# Altium integrated library National Semiconductor LDO.IntLib: 2675 symbols (part 45 of 65)
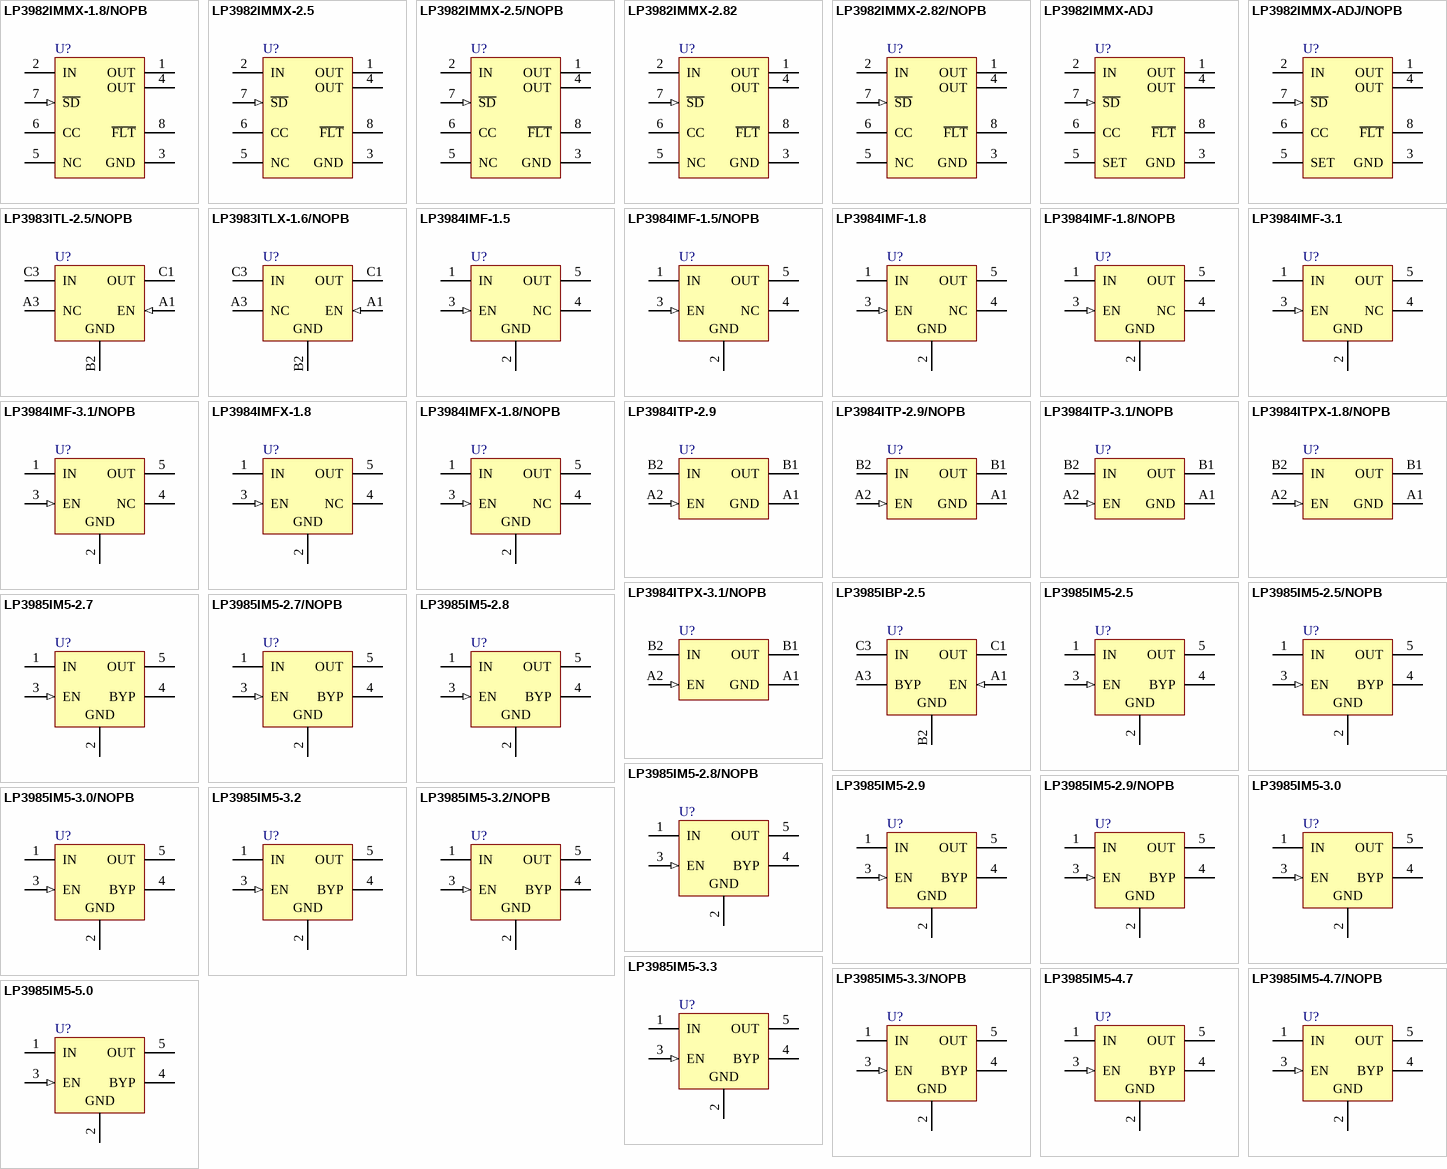
[diagram p111: symbols LP3982IMMX-1.8/NOPB to LP3985IM5-5.0]

## LP3985IM5-2.7
designator U?
Micropower, 150mA Low-Noise Ultra Low-Dropout CMOS Voltage Regulator, 5-pin SOT-23; PartNumber: LP3985IM5-2.7; Manufacturer: National Semiconductor; PackageTopMarking: LCUB*XTT; PowerWise: N; CompType: LDO IC; High-Reliability: Y; DatasheetVersion: Aug-2005; PackageVersion: revD, Aug-2008; PackageReference: MF05A; PackageDescription: Molded SOT-23, .115 x .063 x .040 in Body, 5 Lead, .0375 in Pitch; RoHS: N; PinCount: 5; ComponentLink1Description: Manufacturer URL; ComponentLink1URL: http://www.national.com/; ComponentLink2Description: LP3985 Datasheet; ComponentLink2URL: http://www.national.com/ds/LP/LP3985.pdf; ComponentLink3Description: LP3985 Web Page; ComponentLink3URL: http://www.national.com/pf/LP/LP3985.html; ComponentLink4Description: MF05A Package Page; ComponentLink4URL: http://www.national.com/packaging/folders/mf05a.html
footprint MF05A_N (SOT23, 5-Leads, Body 2.9x1.6mm, Pitch 0.95mm, Lead Span 2.8mm, IPC Medium Density)
footprint MF05A_L (SOT23, 5-Leads, Body 2.9x1.6mm, Pitch 0.95mm, Lead Span 2.8mm, IPC High Density)
footprint MF05A_M (SOT23, 5-Leads, Body 2.9x1.6mm, Pitch 0.95mm, Lead Span 2.8mm, IPC Low Density)
pins: 1 IN (power), 2 GND (power), 3 EN (in), 4 BYP, 5 OUT (power)

## LP3985IM5-2.7/NOPB
designator U?
Micropower, 150mA Low-Noise Ultra Low-Dropout CMOS Voltage Regulator, 5-pin SOT-23, Pb-Free; PartNumber: LP3985IM5-2.7/NOPB; Manufacturer: National Semiconductor; PackageTopMarking: LCUB*XTT; PowerWise: N; CompType: LDO IC; High-Reliability: Y; DatasheetVersion: Aug-2005; PackageVersion: revD, Aug-2008; PackageReference: MF05A; PackageDescription: Molded SOT-23, .115 x .063 x .040 in Body, 5 Lead, .0375 in Pitch; RoHS: Y; PinCount: 5; ComponentLink1Description: Manufacturer URL; ComponentLink1URL: http://www.national.com/; ComponentLink2Description: LP3985 Datasheet; ComponentLink2URL: http://www.national.com/ds/LP/LP3985.pdf; ComponentLink3Description: LP3985 Web Page; ComponentLink3URL: http://www.national.com/pf/LP/LP3985.html; ComponentLink4Description: MF05A Package Page; ComponentLink4URL: http://www.national.com/packaging/folders/mf05a.html
footprint MF05A_N (SOT23, 5-Leads, Body 2.9x1.6mm, Pitch 0.95mm, Lead Span 2.8mm, IPC Medium Density)
footprint MF05A_L (SOT23, 5-Leads, Body 2.9x1.6mm, Pitch 0.95mm, Lead Span 2.8mm, IPC High Density)
footprint MF05A_M (SOT23, 5-Leads, Body 2.9x1.6mm, Pitch 0.95mm, Lead Span 2.8mm, IPC Low Density)
pins: 1 IN (power), 2 GND (power), 3 EN (in), 4 BYP, 5 OUT (power)

## LP3985IM5-2.8
designator U?
Micropower, 150mA Low-Noise Ultra Low-Dropout CMOS Voltage Regulator, 5-pin SOT-23; PartNumber: LP3985IM5-2.8; Manufacturer: National Semiconductor; PackageTopMarking: LCJB*XTT; PowerWise: N; CompType: LDO IC; High-Reliability: Y; DatasheetVersion: Aug-2005; PackageVersion: revD, Aug-2008; PackageReference: MF05A; PackageDescription: Molded SOT-23, .115 x .063 x .040 in Body, 5 Lead, .0375 in Pitch; RoHS: N; PinCount: 5; ComponentLink1Description: Manufacturer URL; ComponentLink1URL: http://www.national.com/; ComponentLink2Description: LP3985 Datasheet; ComponentLink2URL: http://www.national.com/ds/LP/LP3985.pdf; ComponentLink3Description: LP3985 Web Page; ComponentLink3URL: http://www.national.com/pf/LP/LP3985.html; ComponentLink4Description: MF05A Package Page; ComponentLink4URL: http://www.national.com/packaging/folders/mf05a.html
footprint MF05A_N (SOT23, 5-Leads, Body 2.9x1.6mm, Pitch 0.95mm, Lead Span 2.8mm, IPC Medium Density)
footprint MF05A_L (SOT23, 5-Leads, Body 2.9x1.6mm, Pitch 0.95mm, Lead Span 2.8mm, IPC High Density)
footprint MF05A_M (SOT23, 5-Leads, Body 2.9x1.6mm, Pitch 0.95mm, Lead Span 2.8mm, IPC Low Density)
pins: 1 IN (power), 2 GND (power), 3 EN (in), 4 BYP, 5 OUT (power)

## LP3985IM5-2.8/NOPB
designator U?
Micropower, 150mA Low-Noise Ultra Low-Dropout CMOS Voltage Regulator, 5-pin SOT-23, Pb-Free; PartNumber: LP3985IM5-2.8/NOPB; Manufacturer: National Semiconductor; PackageTopMarking: LCJB*XTT; PowerWise: N; CompType: LDO IC; High-Reliability: Y; DatasheetVersion: Aug-2005; PackageVersion: revD, Aug-2008; PackageReference: MF05A; PackageDescription: Molded SOT-23, .115 x .063 x .040 in Body, 5 Lead, .0375 in Pitch; RoHS: Y; PinCount: 5; ComponentLink1Description: Manufacturer URL; ComponentLink1URL: http://www.national.com/; ComponentLink2Description: LP3985 Datasheet; ComponentLink2URL: http://www.national.com/ds/LP/LP3985.pdf; ComponentLink3Description: LP3985 Web Page; ComponentLink3URL: http://www.national.com/pf/LP/LP3985.html; ComponentLink4Description: MF05A Package Page; ComponentLink4URL: http://www.national.com/packaging/folders/mf05a.html
footprint MF05A_N (SOT23, 5-Leads, Body 2.9x1.6mm, Pitch 0.95mm, Lead Span 2.8mm, IPC Medium Density)
footprint MF05A_L (SOT23, 5-Leads, Body 2.9x1.6mm, Pitch 0.95mm, Lead Span 2.8mm, IPC High Density)
footprint MF05A_M (SOT23, 5-Leads, Body 2.9x1.6mm, Pitch 0.95mm, Lead Span 2.8mm, IPC Low Density)
pins: 1 IN (power), 2 GND (power), 3 EN (in), 4 BYP, 5 OUT (power)

## LP3985IM5-2.9
designator U?
Micropower, 150mA Low-Noise Ultra Low-Dropout CMOS Voltage Regulator, 5-pin SOT-23; PartNumber: LP3985IM5-2.9; Manufacturer: National Semiconductor; PackageTopMarking: LCYB*XTT; PowerWise: N; CompType: LDO IC; High-Reliability: Y; DatasheetVersion: Aug-2005; PackageVersion: revD, Aug-2008; PackageReference: MF05A; PackageDescription: Molded SOT-23, .115 x .063 x .040 in Body, 5 Lead, .0375 in Pitch; RoHS: Y; PinCount: 5; ComponentLink1Description: Manufacturer URL; ComponentLink1URL: http://www.national.com/; ComponentLink2Description: LP3985 Datasheet; ComponentLink2URL: http://www.national.com/ds/LP/LP3985.pdf; ComponentLink3Description: LP3985 Web Page; ComponentLink3URL: http://www.national.com/pf/LP/LP3985.html; ComponentLink4Description: MF05A Package Page; ComponentLink4URL: http://www.national.com/packaging/folders/mf05a.html
footprint MF05A_N (SOT23, 5-Leads, Body 2.9x1.6mm, Pitch 0.95mm, Lead Span 2.8mm, IPC Medium Density)
footprint MF05A_L (SOT23, 5-Leads, Body 2.9x1.6mm, Pitch 0.95mm, Lead Span 2.8mm, IPC High Density)
footprint MF05A_M (SOT23, 5-Leads, Body 2.9x1.6mm, Pitch 0.95mm, Lead Span 2.8mm, IPC Low Density)
pins: 1 IN (power), 2 GND (power), 3 EN (in), 4 BYP, 5 OUT (power)

## LP3985IM5-2.9/NOPB
designator U?
Micropower, 150mA Low-Noise Ultra Low-Dropout CMOS Voltage Regulator, 5-pin SOT-23, Pb-Free; PartNumber: LP3985IM5-2.9/NOPB; Manufacturer: National Semiconductor; PackageTopMarking: LCYB*XTT; PowerWise: N; CompType: LDO IC; High-Reliability: Y; DatasheetVersion: Aug-2005; PackageVersion: revD, Aug-2008; PackageReference: MF05A; PackageDescription: Molded SOT-23, .115 x .063 x .040 in Body, 5 Lead, .0375 in Pitch; RoHS: Y; PinCount: 5; ComponentLink1Description: Manufacturer URL; ComponentLink1URL: http://www.national.com/; ComponentLink2Description: LP3985 Datasheet; ComponentLink2URL: http://www.national.com/ds/LP/LP3985.pdf; ComponentLink3Description: LP3985 Web Page; ComponentLink3URL: http://www.national.com/pf/LP/LP3985.html; ComponentLink4Description: MF05A Package Page; ComponentLink4URL: http://www.national.com/packaging/folders/mf05a.html
footprint MF05A_N (SOT23, 5-Leads, Body 2.9x1.6mm, Pitch 0.95mm, Lead Span 2.8mm, IPC Medium Density)
footprint MF05A_L (SOT23, 5-Leads, Body 2.9x1.6mm, Pitch 0.95mm, Lead Span 2.8mm, IPC High Density)
footprint MF05A_M (SOT23, 5-Leads, Body 2.9x1.6mm, Pitch 0.95mm, Lead Span 2.8mm, IPC Low Density)
pins: 1 IN (power), 2 GND (power), 3 EN (in), 4 BYP, 5 OUT (power)

## LP3985IM5-3.0
designator U?
Micropower, 150mA Low-Noise Ultra Low-Dropout CMOS Voltage Regulator, 5-pin SOT-23; PartNumber: LP3985IM5-3.0; Manufacturer: National Semiconductor; PackageTopMarking: LCRB*XTT; PowerWise: N; CompType: LDO IC; High-Reliability: Y; DatasheetVersion: Aug-2005; PackageVersion: revD, Aug-2008; PackageReference: MF05A; PackageDescription: Molded SOT-23, .115 x .063 x .040 in Body, 5 Lead, .0375 in Pitch; RoHS: N; PinCount: 5; ComponentLink1Description: Manufacturer URL; ComponentLink1URL: http://www.national.com/; ComponentLink2Description: LP3985 Datasheet; ComponentLink2URL: http://www.national.com/ds/LP/LP3985.pdf; ComponentLink3Description: LP3985 Web Page; ComponentLink3URL: http://www.national.com/pf/LP/LP3985.html; ComponentLink4Description: MF05A Package Page; ComponentLink4URL: http://www.national.com/packaging/folders/mf05a.html
footprint MF05A_N (SOT23, 5-Leads, Body 2.9x1.6mm, Pitch 0.95mm, Lead Span 2.8mm, IPC Medium Density)
footprint MF05A_L (SOT23, 5-Leads, Body 2.9x1.6mm, Pitch 0.95mm, Lead Span 2.8mm, IPC High Density)
footprint MF05A_M (SOT23, 5-Leads, Body 2.9x1.6mm, Pitch 0.95mm, Lead Span 2.8mm, IPC Low Density)
pins: 1 IN (power), 2 GND (power), 3 EN (in), 4 BYP, 5 OUT (power)

## LP3985IM5-3.0/NOPB
designator U?
Micropower, 150mA Low-Noise Ultra Low-Dropout CMOS Voltage Regulator, 5-pin SOT-23, Pb-Free; PartNumber: LP3985IM5-3.0/NOPB; Manufacturer: National Semiconductor; PackageTopMarking: LCRB*XTT; PowerWise: N; CompType: LDO IC; High-Reliability: Y; DatasheetVersion: Aug-2005; PackageVersion: revD, Aug-2008; PackageReference: MF05A; PackageDescription: Molded SOT-23, .115 x .063 x .040 in Body, 5 Lead, .0375 in Pitch; RoHS: Y; PinCount: 5; ComponentLink1Description: Manufacturer URL; ComponentLink1URL: http://www.national.com/; ComponentLink2Description: LP3985 Datasheet; ComponentLink2URL: http://www.national.com/ds/LP/LP3985.pdf; ComponentLink3Description: LP3985 Web Page; ComponentLink3URL: http://www.national.com/pf/LP/LP3985.html; ComponentLink4Description: MF05A Package Page; ComponentLink4URL: http://www.national.com/packaging/folders/mf05a.html
footprint MF05A_N (SOT23, 5-Leads, Body 2.9x1.6mm, Pitch 0.95mm, Lead Span 2.8mm, IPC Medium Density)
footprint MF05A_L (SOT23, 5-Leads, Body 2.9x1.6mm, Pitch 0.95mm, Lead Span 2.8mm, IPC High Density)
footprint MF05A_M (SOT23, 5-Leads, Body 2.9x1.6mm, Pitch 0.95mm, Lead Span 2.8mm, IPC Low Density)
pins: 1 IN (power), 2 GND (power), 3 EN (in), 4 BYP, 5 OUT (power)

## LP3985IM5-3.2
designator U?
Micropower, 150mA Low-Noise Ultra Low-Dropout CMOS Voltage Regulator, 5-pin SOT-23; PartNumber: LP3985IM5-3.2; Manufacturer: National Semiconductor; PackageTopMarking: LDPB*XTT; PowerWise: N; CompType: LDO IC; High-Reliability: Y; DatasheetVersion: Aug-2005; PackageVersion: revD, Aug-2008; PackageReference: MF05A; PackageDescription: Molded SOT-23, .115 x .063 x .040 in Body, 5 Lead, .0375 in Pitch; RoHS: N; PinCount: 5; ComponentLink1Description: Manufacturer URL; ComponentLink1URL: http://www.national.com/; ComponentLink2Description: LP3985 Datasheet; ComponentLink2URL: http://www.national.com/ds/LP/LP3985.pdf; ComponentLink3Description: LP3985 Web Page; ComponentLink3URL: http://www.national.com/pf/LP/LP3985.html; ComponentLink4Description: MF05A Package Page; ComponentLink4URL: http://www.national.com/packaging/folders/mf05a.html
footprint MF05A_N (SOT23, 5-Leads, Body 2.9x1.6mm, Pitch 0.95mm, Lead Span 2.8mm, IPC Medium Density)
footprint MF05A_L (SOT23, 5-Leads, Body 2.9x1.6mm, Pitch 0.95mm, Lead Span 2.8mm, IPC High Density)
footprint MF05A_M (SOT23, 5-Leads, Body 2.9x1.6mm, Pitch 0.95mm, Lead Span 2.8mm, IPC Low Density)
pins: 1 IN (power), 2 GND (power), 3 EN (in), 4 BYP, 5 OUT (power)

## LP3985IM5-3.2/NOPB
designator U?
Micropower, 150mA Low-Noise Ultra Low-Dropout CMOS Voltage Regulator, 5-pin SOT-23, Pb-Free; PartNumber: LP3985IM5-3.2/NOPB; Manufacturer: National Semiconductor; PackageTopMarking: LDPB*XTT; PowerWise: N; CompType: LDO IC; High-Reliability: Y; DatasheetVersion: Aug-2005; PackageVersion: revD, Aug-2008; PackageReference: MF05A; PackageDescription: Molded SOT-23, .115 x .063 x .040 in Body, 5 Lead, .0375 in Pitch; RoHS: Y; PinCount: 5; ComponentLink1Description: Manufacturer URL; ComponentLink1URL: http://www.national.com/; ComponentLink2Description: LP3985 Datasheet; ComponentLink2URL: http://www.national.com/ds/LP/LP3985.pdf; ComponentLink3Description: LP3985 Web Page; ComponentLink3URL: http://www.national.com/pf/LP/LP3985.html; ComponentLink4Description: MF05A Package Page; ComponentLink4URL: http://www.national.com/packaging/folders/mf05a.html
footprint MF05A_N (SOT23, 5-Leads, Body 2.9x1.6mm, Pitch 0.95mm, Lead Span 2.8mm, IPC Medium Density)
footprint MF05A_L (SOT23, 5-Leads, Body 2.9x1.6mm, Pitch 0.95mm, Lead Span 2.8mm, IPC High Density)
footprint MF05A_M (SOT23, 5-Leads, Body 2.9x1.6mm, Pitch 0.95mm, Lead Span 2.8mm, IPC Low Density)
pins: 1 IN (power), 2 GND (power), 3 EN (in), 4 BYP, 5 OUT (power)

## LP3985IM5-3.3
designator U?
Micropower, 150mA Low-Noise Ultra Low-Dropout CMOS Voltage Regulator, 5-pin SOT-23; PartNumber: LP3985IM5-3.3; Manufacturer: National Semiconductor; PackageTopMarking: LDQB*XTT; PowerWise: N; CompType: LDO IC; High-Reliability: Y; DatasheetVersion: Aug-2005; PackageVersion: revD, Aug-2008; PackageReference: MF05A; PackageDescription: Molded SOT-23, .115 x .063 x .040 in Body, 5 Lead, .0375 in Pitch; RoHS: N; PinCount: 5; ComponentLink1Description: Manufacturer URL; ComponentLink1URL: http://www.national.com/; ComponentLink2Description: LP3985 Datasheet; ComponentLink2URL: http://www.national.com/ds/LP/LP3985.pdf; ComponentLink3Description: LP3985 Web Page; ComponentLink3URL: http://www.national.com/pf/LP/LP3985.html; ComponentLink4Description: MF05A Package Page; ComponentLink4URL: http://www.national.com/packaging/folders/mf05a.html
footprint MF05A_N (SOT23, 5-Leads, Body 2.9x1.6mm, Pitch 0.95mm, Lead Span 2.8mm, IPC Medium Density)
footprint MF05A_L (SOT23, 5-Leads, Body 2.9x1.6mm, Pitch 0.95mm, Lead Span 2.8mm, IPC High Density)
footprint MF05A_M (SOT23, 5-Leads, Body 2.9x1.6mm, Pitch 0.95mm, Lead Span 2.8mm, IPC Low Density)
pins: 1 IN (power), 2 GND (power), 3 EN (in), 4 BYP, 5 OUT (power)

## LP3985IM5-3.3/NOPB
designator U?
Micropower, 150mA Low-Noise Ultra Low-Dropout CMOS Voltage Regulator, 5-pin SOT-23, Pb-Free; PartNumber: LP3985IM5-3.3/NOPB; Manufacturer: National Semiconductor; PackageTopMarking: LDQB*XTT; PowerWise: N; CompType: LDO IC; High-Reliability: Y; DatasheetVersion: Aug-2005; PackageVersion: revD, Aug-2008; PackageReference: MF05A; PackageDescription: Molded SOT-23, .115 x .063 x .040 in Body, 5 Lead, .0375 in Pitch; RoHS: Y; PinCount: 5; ComponentLink1Description: Manufacturer URL; ComponentLink1URL: http://www.national.com/; ComponentLink2Description: LP3985 Datasheet; ComponentLink2URL: http://www.national.com/ds/LP/LP3985.pdf; ComponentLink3Description: LP3985 Web Page; ComponentLink3URL: http://www.national.com/pf/LP/LP3985.html; ComponentLink4Description: MF05A Package Page; ComponentLink4URL: http://www.national.com/packaging/folders/mf05a.html
footprint MF05A_N (SOT23, 5-Leads, Body 2.9x1.6mm, Pitch 0.95mm, Lead Span 2.8mm, IPC Medium Density)
footprint MF05A_L (SOT23, 5-Leads, Body 2.9x1.6mm, Pitch 0.95mm, Lead Span 2.8mm, IPC High Density)
footprint MF05A_M (SOT23, 5-Leads, Body 2.9x1.6mm, Pitch 0.95mm, Lead Span 2.8mm, IPC Low Density)
pins: 1 IN (power), 2 GND (power), 3 EN (in), 4 BYP, 5 OUT (power)

## LP3985IM5-4.7
designator U?
Micropower, 150mA Low-Noise Ultra Low-Dropout CMOS Voltage Regulator, 5-pin SOT-23; PartNumber: LP3985IM5-4.7; Manufacturer: National Semiconductor; PackageTopMarking: LDRB*XTT; PowerWise: N; CompType: LDO IC; High-Reliability: Y; DatasheetVersion: Aug-2005; PackageVersion: revD, Aug-2008; PackageReference: MF05A; PackageDescription: Molded SOT-23, .115 x .063 x .040 in Body, 5 Lead, .0375 in Pitch; RoHS: N; PinCount: 5; ComponentLink1Description: Manufacturer URL; ComponentLink1URL: http://www.national.com/; ComponentLink2Description: LP3985 Datasheet; ComponentLink2URL: http://www.national.com/ds/LP/LP3985.pdf; ComponentLink3Description: LP3985 Web Page; ComponentLink3URL: http://www.national.com/pf/LP/LP3985.html; ComponentLink4Description: MF05A Package Page; ComponentLink4URL: http://www.national.com/packaging/folders/mf05a.html
footprint MF05A_N (SOT23, 5-Leads, Body 2.9x1.6mm, Pitch 0.95mm, Lead Span 2.8mm, IPC Medium Density)
footprint MF05A_L (SOT23, 5-Leads, Body 2.9x1.6mm, Pitch 0.95mm, Lead Span 2.8mm, IPC High Density)
footprint MF05A_M (SOT23, 5-Leads, Body 2.9x1.6mm, Pitch 0.95mm, Lead Span 2.8mm, IPC Low Density)
pins: 1 IN (power), 2 GND (power), 3 EN (in), 4 BYP, 5 OUT (power)

## LP3985IM5-4.7/NOPB
designator U?
Micropower, 150mA Low-Noise Ultra Low-Dropout CMOS Voltage Regulator, 5-pin SOT-23, Pb-Free; PartNumber: LP3985IM5-4.7/NOPB; Manufacturer: National Semiconductor; PackageTopMarking: LDRB*XTT; PowerWise: N; CompType: LDO IC; High-Reliability: Y; DatasheetVersion: Aug-2005; PackageVersion: revD, Aug-2008; PackageReference: MF05A; PackageDescription: Molded SOT-23, .115 x .063 x .040 in Body, 5 Lead, .0375 in Pitch; RoHS: Y; PinCount: 5; ComponentLink1Description: Manufacturer URL; ComponentLink1URL: http://www.national.com/; ComponentLink2Description: LP3985 Datasheet; ComponentLink2URL: http://www.national.com/ds/LP/LP3985.pdf; ComponentLink3Description: LP3985 Web Page; ComponentLink3URL: http://www.national.com/pf/LP/LP3985.html; ComponentLink4Description: MF05A Package Page; ComponentLink4URL: http://www.national.com/packaging/folders/mf05a.html
footprint MF05A_N (SOT23, 5-Leads, Body 2.9x1.6mm, Pitch 0.95mm, Lead Span 2.8mm, IPC Medium Density)
footprint MF05A_L (SOT23, 5-Leads, Body 2.9x1.6mm, Pitch 0.95mm, Lead Span 2.8mm, IPC High Density)
footprint MF05A_M (SOT23, 5-Leads, Body 2.9x1.6mm, Pitch 0.95mm, Lead Span 2.8mm, IPC Low Density)
pins: 1 IN (power), 2 GND (power), 3 EN (in), 4 BYP, 5 OUT (power)

## LP3985IM5-5.0
designator U?
Micropower, 150mA Low-Noise Ultra Low-Dropout CMOS Voltage Regulator, 5-pin SOT-23; PartNumber: LP3985IM5-5.0; Manufacturer: National Semiconductor; PackageTopMarking: LDSB*XTT; PowerWise: N; CompType: LDO IC; High-Reliability: Y; DatasheetVersion: Aug-2005; PackageVersion: revD, Aug-2008; PackageReference: MF05A; PackageDescription: Molded SOT-23, .115 x .063 x .040 in Body, 5 Lead, .0375 in Pitch; RoHS: N; PinCount: 5; ComponentLink1Description: Manufacturer URL; ComponentLink1URL: http://www.national.com/; ComponentLink2Description: LP3985 Datasheet; ComponentLink2URL: http://www.national.com/ds/LP/LP3985.pdf; ComponentLink3Description: LP3985 Web Page; ComponentLink3URL: http://www.national.com/pf/LP/LP3985.html; ComponentLink4Description: MF05A Package Page; ComponentLink4URL: http://www.national.com/packaging/folders/mf05a.html
footprint MF05A_N (SOT23, 5-Leads, Body 2.9x1.6mm, Pitch 0.95mm, Lead Span 2.8mm, IPC Medium Density)
footprint MF05A_L (SOT23, 5-Leads, Body 2.9x1.6mm, Pitch 0.95mm, Lead Span 2.8mm, IPC High Density)
footprint MF05A_M (SOT23, 5-Leads, Body 2.9x1.6mm, Pitch 0.95mm, Lead Span 2.8mm, IPC Low Density)
pins: 1 IN (power), 2 GND (power), 3 EN (in), 4 BYP, 5 OUT (power)

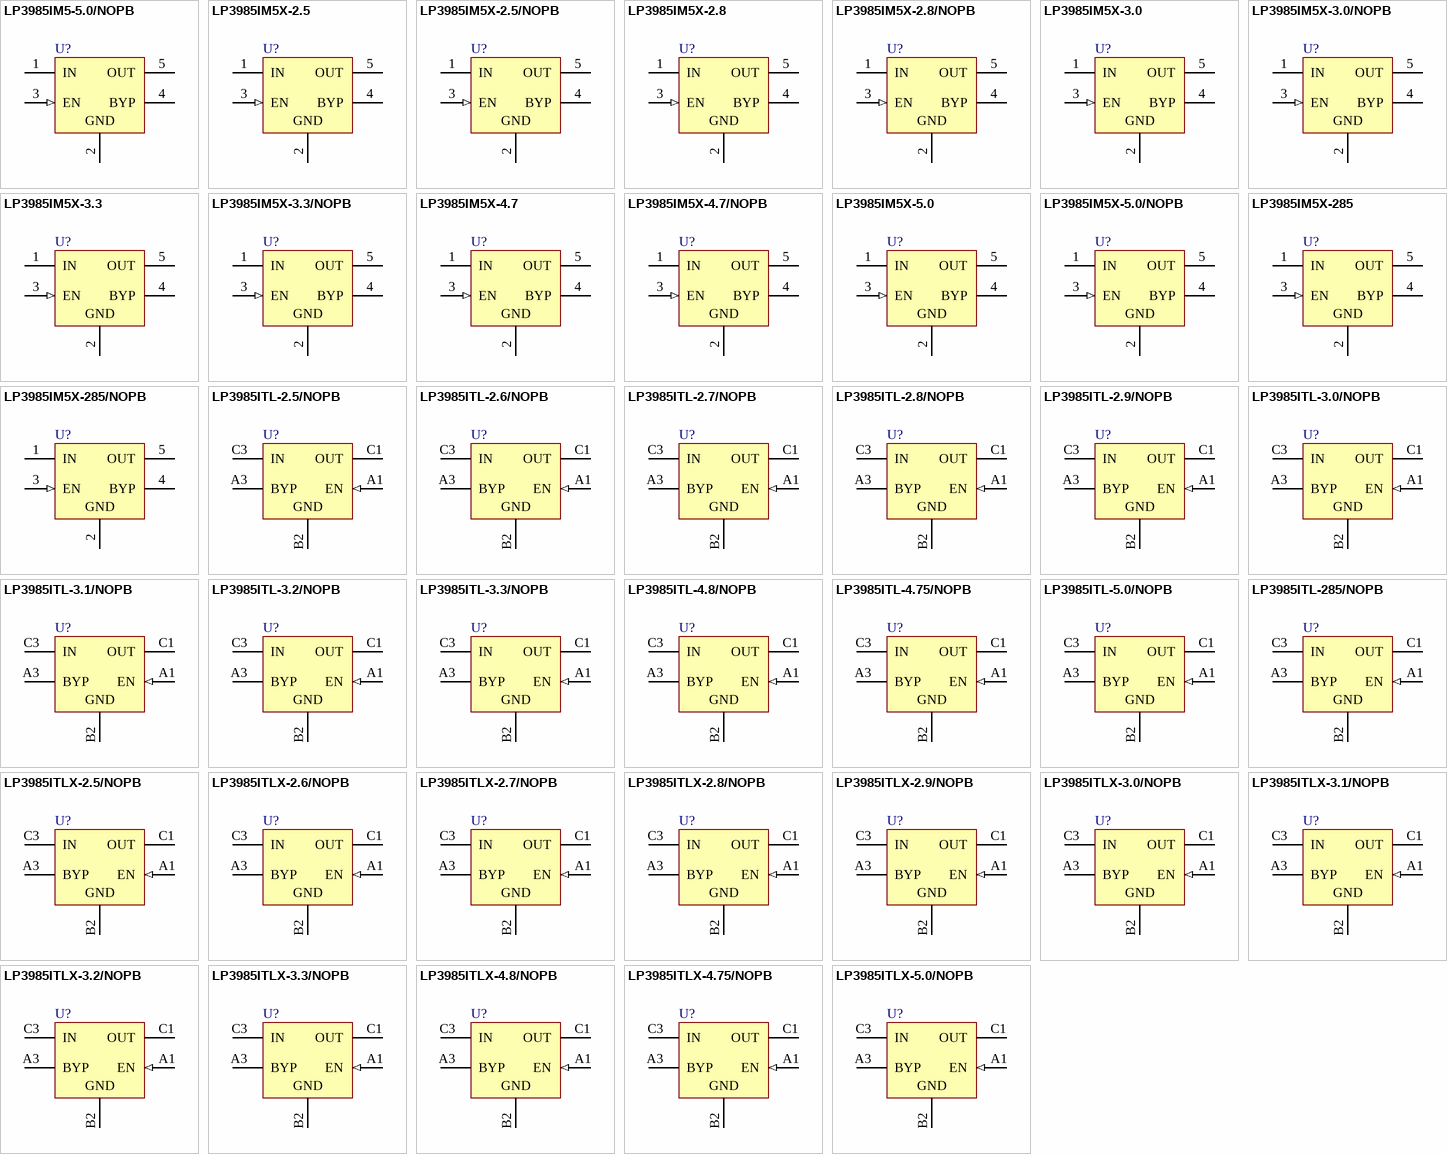
[diagram p46: symbols LP3985IM5-5.0/NOPB to LP3985ITLX-5.0/NOPB]

## LP3985IM5-5.0/NOPB
designator U?
Micropower, 150mA Low-Noise Ultra Low-Dropout CMOS Voltage Regulator, 5-pin SOT-23, Pb-Free; PartNumber: LP3985IM5-5.0/NOPB; Manufacturer: National Semiconductor; PackageTopMarking: LDSB*XTT; PowerWise: N; CompType: LDO IC; High-Reliability: Y; DatasheetVersion: Aug-2005; PackageVersion: revD, Aug-2008; PackageReference: MF05A; PackageDescription: Molded SOT-23, .115 x .063 x .040 in Body, 5 Lead, .0375 in Pitch; RoHS: Y; PinCount: 5; ComponentLink1Description: Manufacturer URL; ComponentLink1URL: http://www.national.com/; ComponentLink2Description: LP3985 Datasheet; ComponentLink2URL: http://www.national.com/ds/LP/LP3985.pdf; ComponentLink3Description: LP3985 Web Page; ComponentLink3URL: http://www.national.com/pf/LP/LP3985.html; ComponentLink4Description: MF05A Package Page; ComponentLink4URL: http://www.national.com/packaging/folders/mf05a.html
footprint MF05A_N (SOT23, 5-Leads, Body 2.9x1.6mm, Pitch 0.95mm, Lead Span 2.8mm, IPC Medium Density)
footprint MF05A_L (SOT23, 5-Leads, Body 2.9x1.6mm, Pitch 0.95mm, Lead Span 2.8mm, IPC High Density)
footprint MF05A_M (SOT23, 5-Leads, Body 2.9x1.6mm, Pitch 0.95mm, Lead Span 2.8mm, IPC Low Density)
pins: 1 IN (power), 2 GND (power), 3 EN (in), 4 BYP, 5 OUT (power)

## LP3985IM5X-2.5
designator U?
Micropower, 150mA Low-Noise Ultra Low-Dropout CMOS Voltage Regulator, 5-pin SOT-23; PartNumber: LP3985IM5X-2.5; Manufacturer: National Semiconductor; PackageTopMarking: LCSB*XTT; PowerWise: N; CompType: LDO IC; High-Reliability: Y; DatasheetVersion: Aug-2005; PackageVersion: revD, Aug-2008; PackageReference: MF05A; PackageDescription: Molded SOT-23, .115 x .063 x .040 in Body, 5 Lead, .0375 in Pitch; RoHS: N; PinCount: 5; ComponentLink1Description: Manufacturer URL; ComponentLink1URL: http://www.national.com/; ComponentLink2Description: LP3985 Datasheet; ComponentLink2URL: http://www.national.com/ds/LP/LP3985.pdf; ComponentLink3Description: LP3985 Web Page; ComponentLink3URL: http://www.national.com/pf/LP/LP3985.html; ComponentLink4Description: MF05A Package Page; ComponentLink4URL: http://www.national.com/packaging/folders/mf05a.html
footprint MF05A_N (SOT23, 5-Leads, Body 2.9x1.6mm, Pitch 0.95mm, Lead Span 2.8mm, IPC Medium Density)
footprint MF05A_L (SOT23, 5-Leads, Body 2.9x1.6mm, Pitch 0.95mm, Lead Span 2.8mm, IPC High Density)
footprint MF05A_M (SOT23, 5-Leads, Body 2.9x1.6mm, Pitch 0.95mm, Lead Span 2.8mm, IPC Low Density)
pins: 1 IN (power), 2 GND (power), 3 EN (in), 4 BYP, 5 OUT (power)

## LP3985IM5X-2.5/NOPB
designator U?
Micropower, 150mA Low-Noise Ultra Low-Dropout CMOS Voltage Regulator, 5-pin SOT-23, Pb-Free; PartNumber: LP3985IM5X-2.5/NOPB; Manufacturer: National Semiconductor; PackageTopMarking: LCSB*XTT; PowerWise: N; CompType: LDO IC; High-Reliability: Y; DatasheetVersion: Aug-2005; PackageVersion: revD, Aug-2008; PackageReference: MF05A; PackageDescription: Molded SOT-23, .115 x .063 x .040 in Body, 5 Lead, .0375 in Pitch; RoHS: Y; PinCount: 5; ComponentLink1Description: Manufacturer URL; ComponentLink1URL: http://www.national.com/; ComponentLink2Description: LP3985 Datasheet; ComponentLink2URL: http://www.national.com/ds/LP/LP3985.pdf; ComponentLink3Description: LP3985 Web Page; ComponentLink3URL: http://www.national.com/pf/LP/LP3985.html; ComponentLink4Description: MF05A Package Page; ComponentLink4URL: http://www.national.com/packaging/folders/mf05a.html
footprint MF05A_N (SOT23, 5-Leads, Body 2.9x1.6mm, Pitch 0.95mm, Lead Span 2.8mm, IPC Medium Density)
footprint MF05A_L (SOT23, 5-Leads, Body 2.9x1.6mm, Pitch 0.95mm, Lead Span 2.8mm, IPC High Density)
footprint MF05A_M (SOT23, 5-Leads, Body 2.9x1.6mm, Pitch 0.95mm, Lead Span 2.8mm, IPC Low Density)
pins: 1 IN (power), 2 GND (power), 3 EN (in), 4 BYP, 5 OUT (power)

## LP3985IM5X-2.8
designator U?
Micropower, 150mA Low-Noise Ultra Low-Dropout CMOS Voltage Regulator, 5-pin SOT-23; PartNumber: LP3985IM5X-2.8; Manufacturer: National Semiconductor; PackageTopMarking: LCJB*XTT; PowerWise: N; CompType: LDO IC; High-Reliability: Y; DatasheetVersion: Aug-2005; PackageVersion: revD, Aug-2008; PackageReference: MF05A; PackageDescription: Molded SOT-23, .115 x .063 x .040 in Body, 5 Lead, .0375 in Pitch; RoHS: N; PinCount: 5; ComponentLink1Description: Manufacturer URL; ComponentLink1URL: http://www.national.com/; ComponentLink2Description: LP3985 Datasheet; ComponentLink2URL: http://www.national.com/ds/LP/LP3985.pdf; ComponentLink3Description: LP3985 Web Page; ComponentLink3URL: http://www.national.com/pf/LP/LP3985.html; ComponentLink4Description: MF05A Package Page; ComponentLink4URL: http://www.national.com/packaging/folders/mf05a.html
footprint MF05A_N (SOT23, 5-Leads, Body 2.9x1.6mm, Pitch 0.95mm, Lead Span 2.8mm, IPC Medium Density)
footprint MF05A_L (SOT23, 5-Leads, Body 2.9x1.6mm, Pitch 0.95mm, Lead Span 2.8mm, IPC High Density)
footprint MF05A_M (SOT23, 5-Leads, Body 2.9x1.6mm, Pitch 0.95mm, Lead Span 2.8mm, IPC Low Density)
pins: 1 IN (power), 2 GND (power), 3 EN (in), 4 BYP, 5 OUT (power)

## LP3985IM5X-2.8/NOPB
designator U?
Micropower, 150mA Low-Noise Ultra Low-Dropout CMOS Voltage Regulator, 5-pin SOT-23, Pb-Free; PartNumber: LP3985IM5X-2.8/NOPB; Manufacturer: National Semiconductor; PackageTopMarking: LCJB*XTT; PowerWise: N; CompType: LDO IC; High-Reliability: Y; DatasheetVersion: Aug-2005; PackageVersion: revD, Aug-2008; PackageReference: MF05A; PackageDescription: Molded SOT-23, .115 x .063 x .040 in Body, 5 Lead, .0375 in Pitch; RoHS: Y; PinCount: 5; ComponentLink1Description: Manufacturer URL; ComponentLink1URL: http://www.national.com/; ComponentLink2Description: LP3985 Datasheet; ComponentLink2URL: http://www.national.com/ds/LP/LP3985.pdf; ComponentLink3Description: LP3985 Web Page; ComponentLink3URL: http://www.national.com/pf/LP/LP3985.html; ComponentLink4Description: MF05A Package Page; ComponentLink4URL: http://www.national.com/packaging/folders/mf05a.html
footprint MF05A_N (SOT23, 5-Leads, Body 2.9x1.6mm, Pitch 0.95mm, Lead Span 2.8mm, IPC Medium Density)
footprint MF05A_L (SOT23, 5-Leads, Body 2.9x1.6mm, Pitch 0.95mm, Lead Span 2.8mm, IPC High Density)
footprint MF05A_M (SOT23, 5-Leads, Body 2.9x1.6mm, Pitch 0.95mm, Lead Span 2.8mm, IPC Low Density)
pins: 1 IN (power), 2 GND (power), 3 EN (in), 4 BYP, 5 OUT (power)

## LP3985IM5X-3.0
designator U?
Micropower, 150mA Low-Noise Ultra Low-Dropout CMOS Voltage Regulator, 5-pin SOT-23; PartNumber: LP3985IM5X-3.0; Manufacturer: National Semiconductor; PackageTopMarking: LCRB*XTT; PowerWise: N; CompType: LDO IC; High-Reliability: Y; DatasheetVersion: Aug-2005; PackageVersion: revD, Aug-2008; PackageReference: MF05A; PackageDescription: Molded SOT-23, .115 x .063 x .040 in Body, 5 Lead, .0375 in Pitch; RoHS: N; PinCount: 5; ComponentLink1Description: Manufacturer URL; ComponentLink1URL: http://www.national.com/; ComponentLink2Description: LP3985 Datasheet; ComponentLink2URL: http://www.national.com/ds/LP/LP3985.pdf; ComponentLink3Description: LP3985 Web Page; ComponentLink3URL: http://www.national.com/pf/LP/LP3985.html; ComponentLink4Description: MF05A Package Page; ComponentLink4URL: http://www.national.com/packaging/folders/mf05a.html
footprint MF05A_N (SOT23, 5-Leads, Body 2.9x1.6mm, Pitch 0.95mm, Lead Span 2.8mm, IPC Medium Density)
footprint MF05A_L (SOT23, 5-Leads, Body 2.9x1.6mm, Pitch 0.95mm, Lead Span 2.8mm, IPC High Density)
footprint MF05A_M (SOT23, 5-Leads, Body 2.9x1.6mm, Pitch 0.95mm, Lead Span 2.8mm, IPC Low Density)
pins: 1 IN (power), 2 GND (power), 3 EN (in), 4 BYP, 5 OUT (power)

## LP3985IM5X-3.0/NOPB
designator U?
Micropower, 150mA Low-Noise Ultra Low-Dropout CMOS Voltage Regulator, 5-pin SOT-23, Pb-Free; PartNumber: LP3985IM5X-3.0/NOPB; Manufacturer: National Semiconductor; PackageTopMarking: LCRB*XTT; PowerWise: N; CompType: LDO IC; High-Reliability: Y; DatasheetVersion: Aug-2005; PackageVersion: revD, Aug-2008; PackageReference: MF05A; PackageDescription: Molded SOT-23, .115 x .063 x .040 in Body, 5 Lead, .0375 in Pitch; RoHS: Y; PinCount: 5; ComponentLink1Description: Manufacturer URL; ComponentLink1URL: http://www.national.com/; ComponentLink2Description: LP3985 Datasheet; ComponentLink2URL: http://www.national.com/ds/LP/LP3985.pdf; ComponentLink3Description: LP3985 Web Page; ComponentLink3URL: http://www.national.com/pf/LP/LP3985.html; ComponentLink4Description: MF05A Package Page; ComponentLink4URL: http://www.national.com/packaging/folders/mf05a.html
footprint MF05A_N (SOT23, 5-Leads, Body 2.9x1.6mm, Pitch 0.95mm, Lead Span 2.8mm, IPC Medium Density)
footprint MF05A_L (SOT23, 5-Leads, Body 2.9x1.6mm, Pitch 0.95mm, Lead Span 2.8mm, IPC High Density)
footprint MF05A_M (SOT23, 5-Leads, Body 2.9x1.6mm, Pitch 0.95mm, Lead Span 2.8mm, IPC Low Density)
pins: 1 IN (power), 2 GND (power), 3 EN (in), 4 BYP, 5 OUT (power)

## LP3985IM5X-3.3
designator U?
Micropower, 150mA Low-Noise Ultra Low-Dropout CMOS Voltage Regulator, 5-pin SOT-23; PartNumber: LP3985IM5X-3.3; Manufacturer: National Semiconductor; PackageTopMarking: LDQB*XTT; PowerWise: N; CompType: LDO IC; High-Reliability: Y; DatasheetVersion: Aug-2005; PackageVersion: revD, Aug-2008; PackageReference: MF05A; PackageDescription: Molded SOT-23, .115 x .063 x .040 in Body, 5 Lead, .0375 in Pitch; RoHS: N; PinCount: 5; ComponentLink1Description: Manufacturer URL; ComponentLink1URL: http://www.national.com/; ComponentLink2Description: LP3985 Datasheet; ComponentLink2URL: http://www.national.com/ds/LP/LP3985.pdf; ComponentLink3Description: LP3985 Web Page; ComponentLink3URL: http://www.national.com/pf/LP/LP3985.html; ComponentLink4Description: MF05A Package Page; ComponentLink4URL: http://www.national.com/packaging/folders/mf05a.html
footprint MF05A_N (SOT23, 5-Leads, Body 2.9x1.6mm, Pitch 0.95mm, Lead Span 2.8mm, IPC Medium Density)
footprint MF05A_L (SOT23, 5-Leads, Body 2.9x1.6mm, Pitch 0.95mm, Lead Span 2.8mm, IPC High Density)
footprint MF05A_M (SOT23, 5-Leads, Body 2.9x1.6mm, Pitch 0.95mm, Lead Span 2.8mm, IPC Low Density)
pins: 1 IN (power), 2 GND (power), 3 EN (in), 4 BYP, 5 OUT (power)

## LP3985IM5X-3.3/NOPB
designator U?
Micropower, 150mA Low-Noise Ultra Low-Dropout CMOS Voltage Regulator, 5-pin SOT-23, Pb-Free; PartNumber: LP3985IM5X-3.3/NOPB; Manufacturer: National Semiconductor; PackageTopMarking: LDQB*XTT; PowerWise: N; CompType: LDO IC; High-Reliability: Y; DatasheetVersion: Aug-2005; PackageVersion: revD, Aug-2008; PackageReference: MF05A; PackageDescription: Molded SOT-23, .115 x .063 x .040 in Body, 5 Lead, .0375 in Pitch; RoHS: Y; PinCount: 5; ComponentLink1Description: Manufacturer URL; ComponentLink1URL: http://www.national.com/; ComponentLink2Description: LP3985 Datasheet; ComponentLink2URL: http://www.national.com/ds/LP/LP3985.pdf; ComponentLink3Description: LP3985 Web Page; ComponentLink3URL: http://www.national.com/pf/LP/LP3985.html; ComponentLink4Description: MF05A Package Page; ComponentLink4URL: http://www.national.com/packaging/folders/mf05a.html
footprint MF05A_N (SOT23, 5-Leads, Body 2.9x1.6mm, Pitch 0.95mm, Lead Span 2.8mm, IPC Medium Density)
footprint MF05A_L (SOT23, 5-Leads, Body 2.9x1.6mm, Pitch 0.95mm, Lead Span 2.8mm, IPC High Density)
footprint MF05A_M (SOT23, 5-Leads, Body 2.9x1.6mm, Pitch 0.95mm, Lead Span 2.8mm, IPC Low Density)
pins: 1 IN (power), 2 GND (power), 3 EN (in), 4 BYP, 5 OUT (power)

## LP3985IM5X-4.7
designator U?
Micropower, 150mA Low-Noise Ultra Low-Dropout CMOS Voltage Regulator, 5-pin SOT-23; PartNumber: LP3985IM5X-4.7; Manufacturer: National Semiconductor; PackageTopMarking: LDRB*XTT; PowerWise: N; CompType: LDO IC; High-Reliability: Y; DatasheetVersion: Aug-2005; PackageVersion: revD, Aug-2008; PackageReference: MF05A; PackageDescription: Molded SOT-23, .115 x .063 x .040 in Body, 5 Lead, .0375 in Pitch; RoHS: N; PinCount: 5; ComponentLink1Description: Manufacturer URL; ComponentLink1URL: http://www.national.com/; ComponentLink2Description: LP3985 Datasheet; ComponentLink2URL: http://www.national.com/ds/LP/LP3985.pdf; ComponentLink3Description: LP3985 Web Page; ComponentLink3URL: http://www.national.com/pf/LP/LP3985.html; ComponentLink4Description: MF05A Package Page; ComponentLink4URL: http://www.national.com/packaging/folders/mf05a.html
footprint MF05A_N (SOT23, 5-Leads, Body 2.9x1.6mm, Pitch 0.95mm, Lead Span 2.8mm, IPC Medium Density)
footprint MF05A_L (SOT23, 5-Leads, Body 2.9x1.6mm, Pitch 0.95mm, Lead Span 2.8mm, IPC High Density)
footprint MF05A_M (SOT23, 5-Leads, Body 2.9x1.6mm, Pitch 0.95mm, Lead Span 2.8mm, IPC Low Density)
pins: 1 IN (power), 2 GND (power), 3 EN (in), 4 BYP, 5 OUT (power)

## LP3985IM5X-4.7/NOPB
designator U?
Micropower, 150mA Low-Noise Ultra Low-Dropout CMOS Voltage Regulator, 5-pin SOT-23, Pb-Free; PartNumber: LP3985IM5X-4.7/NOPB; Manufacturer: National Semiconductor; PackageTopMarking: LDRB*XTT; PowerWise: N; CompType: LDO IC; High-Reliability: Y; DatasheetVersion: Aug-2005; PackageVersion: revD, Aug-2008; PackageReference: MF05A; PackageDescription: Molded SOT-23, .115 x .063 x .040 in Body, 5 Lead, .0375 in Pitch; RoHS: Y; PinCount: 5; ComponentLink1Description: Manufacturer URL; ComponentLink1URL: http://www.national.com/; ComponentLink2Description: LP3985 Datasheet; ComponentLink2URL: http://www.national.com/ds/LP/LP3985.pdf; ComponentLink3Description: LP3985 Web Page; ComponentLink3URL: http://www.national.com/pf/LP/LP3985.html; ComponentLink4Description: MF05A Package Page; ComponentLink4URL: http://www.national.com/packaging/folders/mf05a.html
footprint MF05A_N (SOT23, 5-Leads, Body 2.9x1.6mm, Pitch 0.95mm, Lead Span 2.8mm, IPC Medium Density)
footprint MF05A_L (SOT23, 5-Leads, Body 2.9x1.6mm, Pitch 0.95mm, Lead Span 2.8mm, IPC High Density)
footprint MF05A_M (SOT23, 5-Leads, Body 2.9x1.6mm, Pitch 0.95mm, Lead Span 2.8mm, IPC Low Density)
pins: 1 IN (power), 2 GND (power), 3 EN (in), 4 BYP, 5 OUT (power)

## LP3985IM5X-5.0
designator U?
Micropower, 150mA Low-Noise Ultra Low-Dropout CMOS Voltage Regulator, 5-pin SOT-23; PartNumber: LP3985IM5X-5.0; Manufacturer: National Semiconductor; PackageTopMarking: LDSB*XTT; PowerWise: N; CompType: LDO IC; High-Reliability: Y; DatasheetVersion: Aug-2005; PackageVersion: revD, Aug-2008; PackageReference: MF05A; PackageDescription: Molded SOT-23, .115 x .063 x .040 in Body, 5 Lead, .0375 in Pitch; RoHS: N; PinCount: 5; ComponentLink1Description: Manufacturer URL; ComponentLink1URL: http://www.national.com/; ComponentLink2Description: LP3985 Datasheet; ComponentLink2URL: http://www.national.com/ds/LP/LP3985.pdf; ComponentLink3Description: LP3985 Web Page; ComponentLink3URL: http://www.national.com/pf/LP/LP3985.html; ComponentLink4Description: MF05A Package Page; ComponentLink4URL: http://www.national.com/packaging/folders/mf05a.html
footprint MF05A_N (SOT23, 5-Leads, Body 2.9x1.6mm, Pitch 0.95mm, Lead Span 2.8mm, IPC Medium Density)
footprint MF05A_L (SOT23, 5-Leads, Body 2.9x1.6mm, Pitch 0.95mm, Lead Span 2.8mm, IPC High Density)
footprint MF05A_M (SOT23, 5-Leads, Body 2.9x1.6mm, Pitch 0.95mm, Lead Span 2.8mm, IPC Low Density)
pins: 1 IN (power), 2 GND (power), 3 EN (in), 4 BYP, 5 OUT (power)

## LP3985IM5X-5.0/NOPB
designator U?
Micropower, 150mA Low-Noise Ultra Low-Dropout CMOS Voltage Regulator, 5-pin SOT-23, Pb-Free; PartNumber: LP3985IM5X-5.0/NOPB; Manufacturer: National Semiconductor; PackageTopMarking: LDSB*XTT; PowerWise: N; CompType: LDO IC; High-Reliability: Y; DatasheetVersion: Aug-2005; PackageVersion: revD, Aug-2008; PackageReference: MF05A; PackageDescription: Molded SOT-23, .115 x .063 x .040 in Body, 5 Lead, .0375 in Pitch; RoHS: Y; PinCount: 5; ComponentLink1Description: Manufacturer URL; ComponentLink1URL: http://www.national.com/; ComponentLink2Description: LP3985 Datasheet; ComponentLink2URL: http://www.national.com/ds/LP/LP3985.pdf; ComponentLink3Description: LP3985 Web Page; ComponentLink3URL: http://www.national.com/pf/LP/LP3985.html; ComponentLink4Description: MF05A Package Page; ComponentLink4URL: http://www.national.com/packaging/folders/mf05a.html
footprint MF05A_N (SOT23, 5-Leads, Body 2.9x1.6mm, Pitch 0.95mm, Lead Span 2.8mm, IPC Medium Density)
footprint MF05A_L (SOT23, 5-Leads, Body 2.9x1.6mm, Pitch 0.95mm, Lead Span 2.8mm, IPC High Density)
footprint MF05A_M (SOT23, 5-Leads, Body 2.9x1.6mm, Pitch 0.95mm, Lead Span 2.8mm, IPC Low Density)
pins: 1 IN (power), 2 GND (power), 3 EN (in), 4 BYP, 5 OUT (power)

## LP3985IM5X-285
designator U?
Micropower, 150mA Low-Noise Ultra Low-Dropout CMOS Voltage Regulator, 5-pin SOT-23; PartNumber: LP3985IM5X-285; Manufacturer: National Semiconductor; PackageTopMarking: LCXB*XTT; PowerWise: N; CompType: LDO IC; High-Reliability: Y; DatasheetVersion: Aug-2005; PackageVersion: revD, Aug-2008; PackageReference: MF05A; PackageDescription: Molded SOT-23, .115 x .063 x .040 in Body, 5 Lead, .0375 in Pitch; RoHS: N; PinCount: 5; ComponentLink1Description: Manufacturer URL; ComponentLink1URL: http://www.national.com/; ComponentLink2Description: LP3985 Datasheet; ComponentLink2URL: http://www.national.com/ds/LP/LP3985.pdf; ComponentLink3Description: LP3985 Web Page; ComponentLink3URL: http://www.national.com/pf/LP/LP3985.html; ComponentLink4Description: MF05A Package Page; ComponentLink4URL: http://www.national.com/packaging/folders/mf05a.html
footprint MF05A_N (SOT23, 5-Leads, Body 2.9x1.6mm, Pitch 0.95mm, Lead Span 2.8mm, IPC Medium Density)
footprint MF05A_L (SOT23, 5-Leads, Body 2.9x1.6mm, Pitch 0.95mm, Lead Span 2.8mm, IPC High Density)
footprint MF05A_M (SOT23, 5-Leads, Body 2.9x1.6mm, Pitch 0.95mm, Lead Span 2.8mm, IPC Low Density)
pins: 1 IN (power), 2 GND (power), 3 EN (in), 4 BYP, 5 OUT (power)

## LP3985IM5X-285/NOPB
designator U?
Micropower, 150mA Low-Noise Ultra Low-Dropout CMOS Voltage Regulator, 5-pin SOT-23, Pb-Free; PartNumber: LP3985IM5X-285/NOPB; Manufacturer: National Semiconductor; PackageTopMarking: LCXB*XTT; PowerWise: N; CompType: LDO IC; High-Reliability: Y; DatasheetVersion: Aug-2005; PackageVersion: revD, Aug-2008; PackageReference: MF05A; PackageDescription: Molded SOT-23, .115 x .063 x .040 in Body, 5 Lead, .0375 in Pitch; RoHS: Y; PinCount: 5; ComponentLink1Description: Manufacturer URL; ComponentLink1URL: http://www.national.com/; ComponentLink2Description: LP3985 Datasheet; ComponentLink2URL: http://www.national.com/ds/LP/LP3985.pdf; ComponentLink3Description: LP3985 Web Page; ComponentLink3URL: http://www.national.com/pf/LP/LP3985.html; ComponentLink4Description: MF05A Package Page; ComponentLink4URL: http://www.national.com/packaging/folders/mf05a.html
footprint MF05A_N (SOT23, 5-Leads, Body 2.9x1.6mm, Pitch 0.95mm, Lead Span 2.8mm, IPC Medium Density)
footprint MF05A_L (SOT23, 5-Leads, Body 2.9x1.6mm, Pitch 0.95mm, Lead Span 2.8mm, IPC High Density)
footprint MF05A_M (SOT23, 5-Leads, Body 2.9x1.6mm, Pitch 0.95mm, Lead Span 2.8mm, IPC Low Density)
pins: 1 IN (power), 2 GND (power), 3 EN (in), 4 BYP, 5 OUT (power)

## LP3985ITL-2.5/NOPB
designator U?
Micropower, 150mA Low-Noise Ultra Low-Dropout CMOS Voltage Regulator, 5-pin Micro SMD, Pb-Free; PartNumber: LP3985ITL-2.5/NOPB; Manufacturer: National Semiconductor; PackageTopMarking: XV*I 5; PowerWise: N; CompType: LDO IC; High-Reliability: Y; DatasheetVersion: Aug-2005; PackageVersion: revC, Feb-2005; PackageReference: TLA05AEA; PackageDescription: Thin Micro SMD, 5 Bump (Large), 0.5mm Pitch; RoHS: Y; PinCount: 5; ComponentLink1Description: Manufacturer URL; ComponentLink1URL: http://www.national.com/; ComponentLink2Description: LP3985 Datasheet; ComponentLink2URL: http://www.national.com/ds/LP/LP3985.pdf; ComponentLink3Description: LP3985 Web Page; ComponentLink3URL: http://www.national.com/pf/LP/LP3985.html; ComponentLink4Description: TLA05AEA Package Page; ComponentLink4URL: http://www.national.com/packaging/folders/tla05aea.html
footprint TLA05AEA (Micro SMD, 5-Leads, Body 1.45x1.01mm, Pitch 0.5mm, NSC Recommended)
pins: A1 EN (in), A3 BYP, B2 GND (power), C1 OUT (power), C3 IN (power)

## LP3985ITL-2.6/NOPB
designator U?
Micropower, 150mA Low-Noise Ultra Low-Dropout CMOS Voltage Regulator, 5-pin Micro SMD, Pb-Free; PartNumber: LP3985ITL-2.6/NOPB; Manufacturer: National Semiconductor; PackageTopMarking: XV*I 5; PowerWise: N; CompType: LDO IC; High-Reliability: Y; DatasheetVersion: Aug-2005; PackageVersion: revC, Feb-2005; PackageReference: TLA05AEA; PackageDescription: Thin Micro SMD, 5 Bump (Large), 0.5mm Pitch; RoHS: Y; PinCount: 5; ComponentLink1Description: Manufacturer URL; ComponentLink1URL: http://www.national.com/; ComponentLink2Description: LP3985 Datasheet; ComponentLink2URL: http://www.national.com/ds/LP/LP3985.pdf; ComponentLink3Description: LP3985 Web Page; ComponentLink3URL: http://www.national.com/pf/LP/LP3985.html; ComponentLink4Description: TLA05AEA Package Page; ComponentLink4URL: http://www.national.com/packaging/folders/tla05aea.html
footprint TLA05AEA (Micro SMD, 5-Leads, Body 1.45x1.01mm, Pitch 0.5mm, NSC Recommended)
pins: A1 EN (in), A3 BYP, B2 GND (power), C1 OUT (power), C3 IN (power)

## LP3985ITL-2.7/NOPB
designator U?
Micropower, 150mA Low-Noise Ultra Low-Dropout CMOS Voltage Regulator, 5-pin Micro SMD, Pb-Free; PartNumber: LP3985ITL-2.7/NOPB; Manufacturer: National Semiconductor; PackageTopMarking: XV*I 5; PowerWise: N; CompType: LDO IC; High-Reliability: Y; DatasheetVersion: Aug-2005; PackageVersion: revC, Feb-2005; PackageReference: TLA05AEA; PackageDescription: Thin Micro SMD, 5 Bump (Large), 0.5mm Pitch; RoHS: Y; PinCount: 5; ComponentLink1Description: Manufacturer URL; ComponentLink1URL: http://www.national.com/; ComponentLink2Description: LP3985 Datasheet; ComponentLink2URL: http://www.national.com/ds/LP/LP3985.pdf; ComponentLink3Description: LP3985 Web Page; ComponentLink3URL: http://www.national.com/pf/LP/LP3985.html; ComponentLink4Description: TLA05AEA Package Page; ComponentLink4URL: http://www.national.com/packaging/folders/tla05aea.html
footprint TLA05AEA (Micro SMD, 5-Leads, Body 1.45x1.01mm, Pitch 0.5mm, NSC Recommended)
pins: A1 EN (in), A3 BYP, B2 GND (power), C1 OUT (power), C3 IN (power)

## LP3985ITL-2.8/NOPB
designator U?
Micropower, 150mA Low-Noise Ultra Low-Dropout CMOS Voltage Regulator, 5-pin Micro SMD, Pb-Free; PartNumber: LP3985ITL-2.8/NOPB; Manufacturer: National Semiconductor; PackageTopMarking: XV*I 5; PowerWise: N; CompType: LDO IC; High-Reliability: Y; DatasheetVersion: Aug-2005; PackageVersion: revC, Feb-2005; PackageReference: TLA05AEA; PackageDescription: Thin Micro SMD, 5 Bump (Large), 0.5mm Pitch; RoHS: Y; PinCount: 5; ComponentLink1Description: Manufacturer URL; ComponentLink1URL: http://www.national.com/; ComponentLink2Description: LP3985 Datasheet; ComponentLink2URL: http://www.national.com/ds/LP/LP3985.pdf; ComponentLink3Description: LP3985 Web Page; ComponentLink3URL: http://www.national.com/pf/LP/LP3985.html; ComponentLink4Description: TLA05AEA Package Page; ComponentLink4URL: http://www.national.com/packaging/folders/tla05aea.html
footprint TLA05AEA (Micro SMD, 5-Leads, Body 1.45x1.01mm, Pitch 0.5mm, NSC Recommended)
pins: A1 EN (in), A3 BYP, B2 GND (power), C1 OUT (power), C3 IN (power)

## LP3985ITL-2.9/NOPB
designator U?
Micropower, 150mA Low-Noise Ultra Low-Dropout CMOS Voltage Regulator, 5-pin Micro SMD, Pb-Free; PartNumber: LP3985ITL-2.9/NOPB; Manufacturer: National Semiconductor; PackageTopMarking: XV*I 5; PowerWise: N; CompType: LDO IC; High-Reliability: Y; DatasheetVersion: Aug-2005; PackageVersion: revC, Feb-2005; PackageReference: TLA05AEA; PackageDescription: Thin Micro SMD, 5 Bump (Large), 0.5mm Pitch; RoHS: Y; PinCount: 5; ComponentLink1Description: Manufacturer URL; ComponentLink1URL: http://www.national.com/; ComponentLink2Description: LP3985 Datasheet; ComponentLink2URL: http://www.national.com/ds/LP/LP3985.pdf; ComponentLink3Description: LP3985 Web Page; ComponentLink3URL: http://www.national.com/pf/LP/LP3985.html; ComponentLink4Description: TLA05AEA Package Page; ComponentLink4URL: http://www.national.com/packaging/folders/tla05aea.html
footprint TLA05AEA (Micro SMD, 5-Leads, Body 1.45x1.01mm, Pitch 0.5mm, NSC Recommended)
pins: A1 EN (in), A3 BYP, B2 GND (power), C1 OUT (power), C3 IN (power)

## LP3985ITL-3.0/NOPB
designator U?
Micropower, 150mA Low-Noise Ultra Low-Dropout CMOS Voltage Regulator, 5-pin Micro SMD, Pb-Free; PartNumber: LP3985ITL-3.0/NOPB; Manufacturer: National Semiconductor; PackageTopMarking: XV*I 5; PowerWise: N; CompType: LDO IC; High-Reliability: Y; DatasheetVersion: Aug-2005; PackageVersion: revC, Feb-2005; PackageReference: TLA05AEA; PackageDescription: Thin Micro SMD, 5 Bump (Large), 0.5mm Pitch; RoHS: Y; PinCount: 5; ComponentLink1Description: Manufacturer URL; ComponentLink1URL: http://www.national.com/; ComponentLink2Description: LP3985 Datasheet; ComponentLink2URL: http://www.national.com/ds/LP/LP3985.pdf; ComponentLink3Description: LP3985 Web Page; ComponentLink3URL: http://www.national.com/pf/LP/LP3985.html; ComponentLink4Description: TLA05AEA Package Page; ComponentLink4URL: http://www.national.com/packaging/folders/tla05aea.html
footprint TLA05AEA (Micro SMD, 5-Leads, Body 1.45x1.01mm, Pitch 0.5mm, NSC Recommended)
pins: A1 EN (in), A3 BYP, B2 GND (power), C1 OUT (power), C3 IN (power)

## LP3985ITL-3.1/NOPB
designator U?
Micropower, 150mA Low-Noise Ultra Low-Dropout CMOS Voltage Regulator, 5-pin Micro SMD, Pb-Free; PartNumber: LP3985ITL-3.1/NOPB; Manufacturer: National Semiconductor; PackageTopMarking: XV*I 5; PowerWise: N; CompType: LDO IC; High-Reliability: Y; DatasheetVersion: Aug-2005; PackageVersion: revC, Feb-2005; PackageReference: TLA05AEA; PackageDescription: Thin Micro SMD, 5 Bump (Large), 0.5mm Pitch; RoHS: Y; PinCount: 5; ComponentLink1Description: Manufacturer URL; ComponentLink1URL: http://www.national.com/; ComponentLink2Description: LP3985 Datasheet; ComponentLink2URL: http://www.national.com/ds/LP/LP3985.pdf; ComponentLink3Description: LP3985 Web Page; ComponentLink3URL: http://www.national.com/pf/LP/LP3985.html; ComponentLink4Description: TLA05AEA Package Page; ComponentLink4URL: http://www.national.com/packaging/folders/tla05aea.html
footprint TLA05AEA (Micro SMD, 5-Leads, Body 1.45x1.01mm, Pitch 0.5mm, NSC Recommended)
pins: A1 EN (in), A3 BYP, B2 GND (power), C1 OUT (power), C3 IN (power)

## LP3985ITL-3.2/NOPB
designator U?
Micropower, 150mA Low-Noise Ultra Low-Dropout CMOS Voltage Regulator, 5-pin Micro SMD, Pb-Free; PartNumber: LP3985ITL-3.2/NOPB; Manufacturer: National Semiconductor; PackageTopMarking: XV*I 5; PowerWise: N; CompType: LDO IC; High-Reliability: Y; DatasheetVersion: Aug-2005; PackageVersion: revC, Feb-2005; PackageReference: TLA05AEA; PackageDescription: Thin Micro SMD, 5 Bump (Large), 0.5mm Pitch; RoHS: Y; PinCount: 5; ComponentLink1Description: Manufacturer URL; ComponentLink1URL: http://www.national.com/; ComponentLink2Description: LP3985 Datasheet; ComponentLink2URL: http://www.national.com/ds/LP/LP3985.pdf; ComponentLink3Description: LP3985 Web Page; ComponentLink3URL: http://www.national.com/pf/LP/LP3985.html; ComponentLink4Description: TLA05AEA Package Page; ComponentLink4URL: http://www.national.com/packaging/folders/tla05aea.html
footprint TLA05AEA (Micro SMD, 5-Leads, Body 1.45x1.01mm, Pitch 0.5mm, NSC Recommended)
pins: A1 EN (in), A3 BYP, B2 GND (power), C1 OUT (power), C3 IN (power)

## LP3985ITL-3.3/NOPB
designator U?
Micropower, 150mA Low-Noise Ultra Low-Dropout CMOS Voltage Regulator, 5-pin Micro SMD, Pb-Free; PartNumber: LP3985ITL-3.3/NOPB; Manufacturer: National Semiconductor; PackageTopMarking: XV*I 5; PowerWise: N; CompType: LDO IC; High-Reliability: Y; DatasheetVersion: Aug-2005; PackageVersion: revC, Feb-2005; PackageReference: TLA05AEA; PackageDescription: Thin Micro SMD, 5 Bump (Large), 0.5mm Pitch; RoHS: Y; PinCount: 5; ComponentLink1Description: Manufacturer URL; ComponentLink1URL: http://www.national.com/; ComponentLink2Description: LP3985 Datasheet; ComponentLink2URL: http://www.national.com/ds/LP/LP3985.pdf; ComponentLink3Description: LP3985 Web Page; ComponentLink3URL: http://www.national.com/pf/LP/LP3985.html; ComponentLink4Description: TLA05AEA Package Page; ComponentLink4URL: http://www.national.com/packaging/folders/tla05aea.html
footprint TLA05AEA (Micro SMD, 5-Leads, Body 1.45x1.01mm, Pitch 0.5mm, NSC Recommended)
pins: A1 EN (in), A3 BYP, B2 GND (power), C1 OUT (power), C3 IN (power)

## LP3985ITL-4.8/NOPB
designator U?
Micropower, 150mA Low-Noise Ultra Low-Dropout CMOS Voltage Regulator, 5-pin Micro SMD, Pb-Free; PartNumber: LP3985ITL-4.8/NOPB; Manufacturer: National Semiconductor; PackageTopMarking: XV*I 5; PowerWise: N; CompType: LDO IC; High-Reliability: Y; DatasheetVersion: Aug-2005; PackageVersion: revC, Feb-2005; PackageReference: TLA05AEA; PackageDescription: Thin Micro SMD, 5 Bump (Large), 0.5mm Pitch; RoHS: Y; PinCount: 5; ComponentLink1Description: Manufacturer URL; ComponentLink1URL: http://www.national.com/; ComponentLink2Description: LP3985 Datasheet; ComponentLink2URL: http://www.national.com/ds/LP/LP3985.pdf; ComponentLink3Description: LP3985 Web Page; ComponentLink3URL: http://www.national.com/pf/LP/LP3985.html; ComponentLink4Description: TLA05AEA Package Page; ComponentLink4URL: http://www.national.com/packaging/folders/tla05aea.html
footprint TLA05AEA (Micro SMD, 5-Leads, Body 1.45x1.01mm, Pitch 0.5mm, NSC Recommended)
pins: A1 EN (in), A3 BYP, B2 GND (power), C1 OUT (power), C3 IN (power)

## LP3985ITL-4.75/NOPB
designator U?
Micropower, 150mA Low-Noise Ultra Low-Dropout CMOS Voltage Regulator, 5-pin Micro SMD, Pb-Free; PartNumber: LP3985ITL-4.75/NOPB; Manufacturer: National Semiconductor; PackageTopMarking: XV*I 5; PowerWise: N; CompType: LDO IC; High-Reliability: Y; DatasheetVersion: Aug-2005; PackageVersion: revC, Feb-2005; PackageReference: TLA05AEA; PackageDescription: Thin Micro SMD, 5 Bump (Large), 0.5mm Pitch; RoHS: Y; PinCount: 5; ComponentLink1Description: Manufacturer URL; ComponentLink1URL: http://www.national.com/; ComponentLink2Description: LP3985 Datasheet; ComponentLink2URL: http://www.national.com/ds/LP/LP3985.pdf; ComponentLink3Description: LP3985 Web Page; ComponentLink3URL: http://www.national.com/pf/LP/LP3985.html; ComponentLink4Description: TLA05AEA Package Page; ComponentLink4URL: http://www.national.com/packaging/folders/tla05aea.html
footprint TLA05AEA (Micro SMD, 5-Leads, Body 1.45x1.01mm, Pitch 0.5mm, NSC Recommended)
pins: A1 EN (in), A3 BYP, B2 GND (power), C1 OUT (power), C3 IN (power)